# Altium schematic symbol library Conn_Molex_43045-0600_eec.SchLib: 1 symbol
Pins are listed as number, name and electrical type; pins without a type are passive.

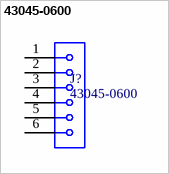
[diagram p0: symbol 43045-0600]

## 43045-0600
designator J?
Micro-Fit 3.0 Right-Angle Header, 3.00mm Pitch, Dual Row, 6 Circuits, with Snap-in Plastic; MF: Molex; Number of Contacts: 6; Current Rating: 5A; Voltage Rating: 250V; Contact Resistance: 10mR; Gender: Male; Insulation Resistance: 1GR; Max Voltage Rating (DC): 250.25kV; Pitch: 3mm; Glow Wire Compliant: Compliant; Approvals: UL,CSA,TUV; value: *; Package: *; Manufacturer: Molex; Manufacturer Part Number: 43045-0600; RoHS: Yes; Category: Headers and Wire Housings; Stock 1: 59808; Pricing 1: 1=2,08000, 10=1,77200, 80=1,46350, 1728=1,11690, 5184=1,02447 (USD); Mount: Through Hole; Case/Package: SMC; Contact Plating: Tin; Color: Black; Contact Material: Brass,Tin; Housing Color: Black; Housing Material: Thermoplastic; Material: Polyester; Min Operating Temperature: -40°C; Max Operating Temperature: 105°C; Number of Rows: 2; Packaging: Tray; Number of Positions: 6; Termination: Solder; Orientation: Right Angle; Number of Circuits: 6; Series: 43045; Package Quantity: 1728; Voltage Rating (DC): 250V; Max Current Rating: 5A; Diameter: 3mm; Length: 13.15mm; Height: 8.77mm; Row Spacing: 3mm; Depth: 12.2mm; Radiation Hardening: No; REACH SVHC: Unknown; Lead Free: Lead Free; Flammability Rating: UL94 V-0; RoHS Compliant: Yes; Halogen Free: Low Halogen; ComponentLink1URL: https://datasheet.ciiva.com/11747/0900766b80027348-11747530.pdf?src-supplier=RSComponents; ComponentLink1Description: https://datasheet.ciiva.com/11747/0900766b80027348-11747530.pdf?src-supplier=RSComponents; ComponentLink2URL: https://datasheet.ciiva.com/30225/179470430450600-pcb-headers-30225817.pdf?src-supplier=Onlinecomponents.com; ComponentLink2Description: https://datasheet.ciiva.com/30225/179470430450600-pcb-headers-30225817.pdf?src-supplier=Onlinecomponents.com; ComponentLink3URL: https://datasheet.ciiva.com/5147/0430450600-pcb-headers-143151-5147470.pdf?src-supplier=Mouser; ComponentLink3Description: https://datasheet.ciiva.com/5147/0430450600-pcb-headers-143151-5147470.pdf?src-supplier=Mouser; ComponentLink4URL: https://datasheet.ciiva.com/19461/883405-19461156.pdf?src-supplier=Jameco; ComponentLink4Description: https://datasheet.ciiva.com/19461/883405-19461156.pdf?src-supplier=Jameco; ComponentLink5URL: https://datasheet.ciiva.com/1443/1850013-1443456.pdf?src-supplier=Element14; ComponentLink5Description: https://datasheet.ciiva.com/1443/1850013-1443456.pdf?src-supplier=Element14; ComponentLink6URL: https://datasheet.ciiva.com/14155/04402310-14155205.pdf?src-supplier=Distrelec; ComponentLink6Description: https://datasheet.ciiva.com/14155/04402310-14155205.pdf?src-supplier=Distrelec; ComponentLink7URL: https://datasheet.ciiva.com/9468/0430450600-pcb-headers-9468489.pdf?src-supplier=Avnet; ComponentLink7Description: https://datasheet.ciiva.com/9468/0430450600-pcb-headers-9468489.pdf?src-supplier=Avnet; ComponentLink8URL: https://datasheet.ciiva.com/16658/0430450600-pcb-headers-16658410.pdf?src-supplier=Avnet+Europe; ComponentLink8Description: https://datasheet.ciiva.com/16658/0430450600-pcb-headers-16658410.pdf?src-supplier=Avnet+Europe
footprint Molex_43045-0600_MFG
pins: 1, 2, 3, 4, 5, 6